# Altium footprint library SOP.PcbLib: 3 footprints
Each footprint in its own frame and in the unit in brackets; x right, y up, seen from the top. Pads: shape width x height; smd on the part's side, far side on the other; paste and mask are expansions set on the pad; w line width, h text height; cw(c..) or ccw(c..) is an arc to the next point about the centre after c.
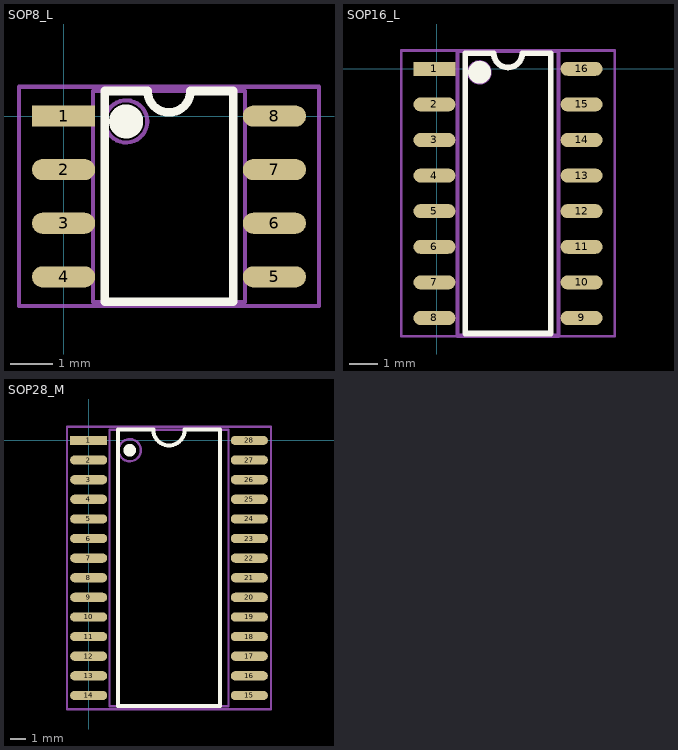
[diagram p0: the footprints below, top view; thin cyan lines are the x and y axes]

## SOP8_L [mm] "5*6*1.8mm（长宽高）"
height 1.75
pads (8):
  rect 1.5x0.5 smd: 1(0,0)
  oval 1.5x0.5 smd: 2(0,-1.27) 3(0,-2.54) 4(0,-3.81) 5(5,-3.81) 6(5,-2.54) 7(5,-1.27) 8(5,0)
Top Overlay:
  circle w0.5: c1.484,-0.127 r0.155
  lines w0.2: 0.976,0.595 0.976,-4.405 4.024,-4.405 4.024,0.595
  lines w0.203: 0.976,0.595 1.992,0.595 ccw(c2.5,0.595) 2.5,0.087 ccw(c2.5,0.595) 3.008,0.595 4.024,0.595
Mechanical 13:
  circle w0.1: c1.484,-0.127 r0.5
  lines w0.1: 0.7,-4.405 0.7,0.595 4.3,0.595 4.3,-4.405 0.7,-4.405
Mechanical 15:
  lines w0.1: -1.056,-4.505 -1.056,0.695 6.056,0.695 6.056,-4.505 -1.056,-4.505
3D body "SOP8.STEP": height 1.9, standoff 0, extent -0.463,-4.416 5.543,0.584

## SOP16_L [mm] "10.3*6.2*1.8mm（长宽高）"
height 1.75
pads (16):
  rect 1.5x0.5 smd: 1(-0.085,0)
  oval 1.5x0.5 smd: 2(-0.085,-1.27) 3(-0.085,-2.54) 4(-0.085,-3.81) 5(-0.085,-5.08) 6(-0.085,-6.35) 7(-0.085,-7.62) 8(-0.085,-8.89) 9(5.165,-8.89) 10(5.165,-7.62) 11(5.165,-6.35) 12(5.165,-5.08) 13(5.165,-3.81) 14(5.165,-2.54) 15(5.165,-1.27) 16(5.165,0)
Top Overlay:
  circle w0.5: c1.524,-0.127 r0.155
  lines w0.2: 1.016,0.555 1.016,-9.445 4.064,-9.445 4.064,0.555
  lines w0.203: 1.016,0.555 2.032,0.555 ccw(c2.54,0.555) 2.54,0.047 ccw(c2.54,0.555) 3.048,0.555 4.064,0.555
Mechanical 13:
  circle w0.15: c1.524,-0.127 r0.359
  lines w0.15: 0.74,-9.525 4.34,-9.525 4.34,0.635 0.74,0.635 0.74,-9.525
Mechanical 15:
  lines w0.1: -1.27,-9.545 -1.27,0.655 6.35,0.655 6.35,-9.545 -1.27,-9.545
3D body "SOP16.STEP": height 1.9, standoff 0, extent -0.514,-9.467 5.492,0.533

## SOP28_M [mm] "17.9*10.6*2.6mm（长宽高）"
pads (28):
  rect 2.4x0.6 smd: 1(0.007,0)
  oval 2.4x0.6 smd: 2(0.007,-1.27) 3(0.007,-2.54) 4(0.007,-3.81) 5(0.007,-5.08) 6(0.007,-6.35) 7(0.007,-7.62) 8(0.007,-8.89) 9(0.007,-10.16) 10(0.007,-11.43) 11(0.007,-12.7) 12(0.007,-13.97) 13(0.007,-15.24) 14(0.007,-16.51) 15(10.407,-16.51) 16(10.407,-15.24) 17(10.407,-13.97) 18(10.407,-12.7) 19(10.407,-11.43) 20(10.407,-10.16) 21(10.407,-8.89) 22(10.407,-7.62) 23(10.407,-6.35) 24(10.407,-5.08) 25(10.407,-3.81) 26(10.407,-2.54) 27(10.407,-1.27) 28(10.407,0)
Top Overlay:
  circle w0.5: c2.667,-0.635 r0.155
  lines w0.254: 1.905,-17.205 1.905,0.695 4.191,0.695 ccw(c5.207,0.695) 6.223,0.695 8.509,0.695 8.509,-17.205 1.905,-17.205
Mechanical 13:
  circle w0.15: c2.667,-0.635 r0.718
  lines w0.15: 1.357,-17.205 9.057,-17.205 9.057,0.695 1.357,0.695 1.357,-17.205
Mechanical 15:
  lines w0.15: -1.397,-17.399 -1.397,0.889 11.811,0.889 11.811,-17.399 -1.397,-17.399
3D body "SOP28.STEP": height 2.7, standoff 0, extent -0.073,-17.24 10.233,0.66